# Altium schematic symbol library Q_NPN.Schlib: 1 symbol
Pins are listed as number, name and electrical type; pins without a type are passive.

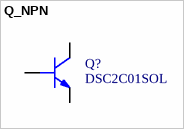
[diagram p0: symbol Q_NPN]

## Q_NPN
designator Q?, comment DSC2C01SOL
Transistor, NPN
pins: BASE, COLLECTOR, EMITTER